# EAGLE library part 74*2G08? (library 74xx)
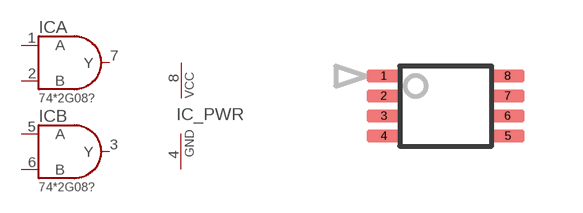
[diagram p4: symbol with the pads of VSSOP-8; footprint VSSOP-8]

Designator prefix IC; gates A=74X08 B=74X08 _PWR=PWRN

## 74LVC2G08DCU (MARK: 08,C08J,C08Q,C08R,CR,CZ; MF: Texas Instruments; MPN: SN74LVC2G08DCU)  [VSSOP-8]
1  A:A
2  A:B
3  B:Y
4  _PWR:GND  pwr
5  B:A
6  B:B
7  A:Y
8  _PWR:VCC  pwr

## Footprint VSSOP-8 (pad centres in mm)
smd 0.85 x 0.3: 1 -1.55,0.75; 2 -1.55,0.25; 3 -1.55,-0.25; 4 -1.55,-0.75; 5 1.55,-0.75; 6 1.55,-0.25; 7 1.55,0.25; 8 1.55,0.75